# Altium schematic symbol library V_6.SchLib: 4 symbols
Pins are listed as number, name and electrical type; pins without a type are passive.

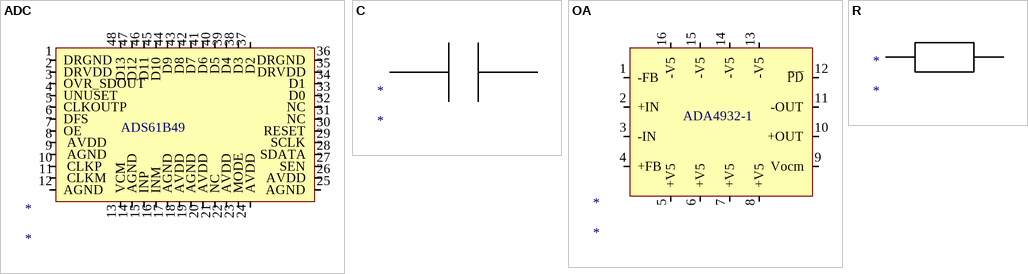
[diagram p0: symbols ADC to R]

## ADC
designator *
footprint ADS61B49
pins: 1 DRGND, 2 DRVDD, 3 OVR_SDOUT, 4 UNUSET, 5 CLKOUTP, 6 DFS, 7 OE, 8  AVDD, 9  AGND, 10  CLKP, 11  CLKM, 12 AGND, 13 VCM, 14 AGND, 15 INP, 16 INM, 17 AGND, 18 AVDD, 19 AGND, 20 AVDD, 21 NC, 22 AVDD, 23 MODE, 24 AVDD, 25 AGND, 26 AVDD, 27 SEN, 28 SDATA, 29 SCLK, 30 RESET, 31 NC, 32 NC, 33 D0, 34 D1, 35 DRVDD, 36 DRGND, 37 D2, 38 D3, 39 D4, 40 D5, 41 D6, 42 D7, 43 D8, 44 D9, 45 D10, 46 D11, 47 D12, 48 D13
text: ADS61B49

## C
designator *
footprint CAP (Chip Capacitor, 2-Leads, Body 1,00x0,50mm, IPC Medium Density)
pins: ?1, ?2

## OA
designator *
footprint ADA4932-1 (QFN, 16-Leads, Body 3,00x3,00mm, Pitch 0,50mm, Thermal Pad 1,50x1,50mm, IPC Medium Density)
pins: 1 -FB, 2 +IN, 3 -IN, 4 +FB, 5 +V5, 6 +V5, 7 +V5, 8 +V5, 9 Vocm, 10 +OUT, 11 -OUT, 12 P̅D̅, 13 -V5, 14 -V5, 15 -V5, 16 -V5
text: ADA4932-1

## R
designator *
footprint RES (Chip Resistor, 2-Leads, Body 1,00x0,50mm, IPC Medium Density)
pins: ?1, ?2